# Altium schematic symbol library conn-4x1_0.Schlib: 1 symbol
Pins are listed as number, name and electrical type; pins without a type are passive.

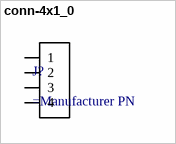
[diagram p0: symbol conn-4x1_0]

## conn-4x1_0
designator J?
Connector, 4x1
pins: 1, 2, 3, 4